# Altium footprint library 691 252 710 0xx.PcbLib: 2 footprints
Each footprint in its own frame and in the unit in brackets; x right, y up, seen from the top. Pads: shape width x height; smd on the part's side, far side on the other; paste and mask are expansions set on the pad; w line width, h text height; cw(c..) or ccw(c..) is an arc to the next point about the centre after c.
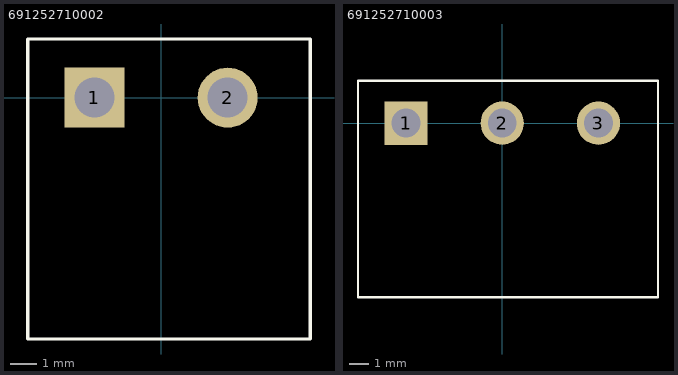
[diagram p0: the footprints below, top view; thin cyan lines are the x and y axes]

## 691252710002 [mm] "Serie 2527 - 5.00 mm _ 2 pins"
height 17.5
pads (2):
  rect 2.25x2.25 hole 1.5: 1(-2.5,0)
  round 2.25 hole 1.5: 2(2.5,0)
Top Overlay:
  lines w0.127: -5,-9.05 -5,2.2 5.6,2.2 5.6,-9.05 -5,-9.05
3D body: height 17.6, standoff -2.9, extent -5.02,-9.06 5.58,2.14

## 691252710003 [mm] "Serie 2527 - 5.00 mm _ 3 pins"
height 17.5
pads (3):
  rect 2.25x2.25 hole 1.5: 1(-5,0)
  round 2.25 hole 1.5: 2(0,0) 3(5,0)
Top Overlay:
  lines w0.127: -7.5,-9.05 8.1,-9.05 8.1,2.2 -7.5,2.2 -7.5,-9.05
3D body: height 17.5, standoff -3, extent -7.5,-9 8.1,2.2